# Altium integrated library TI_Logic_Little_Logic.IntLib: 1164 symbols (part 33 of 35)
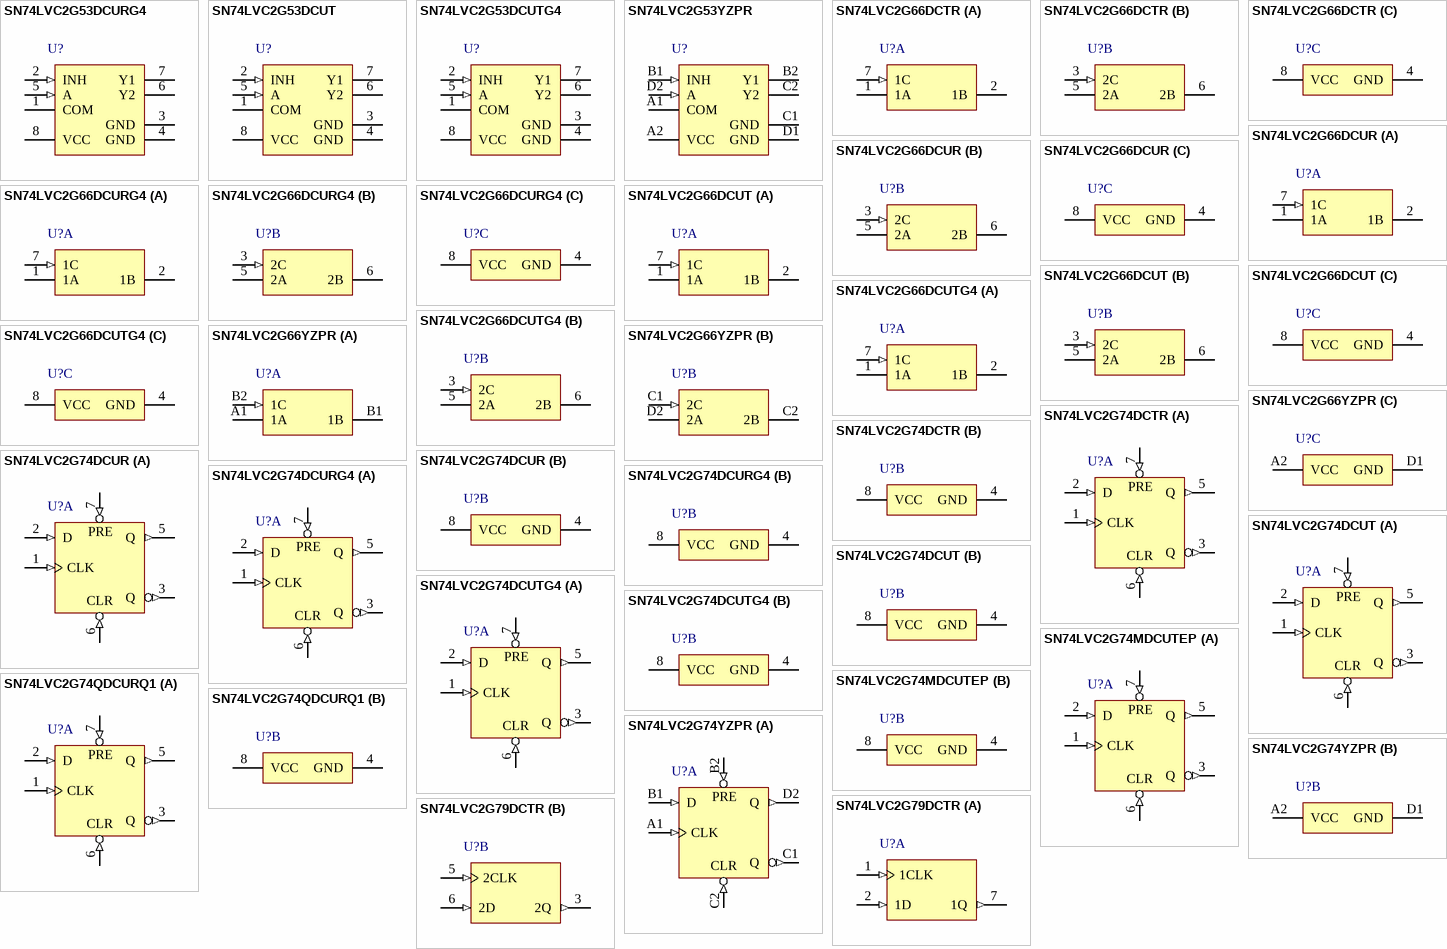
[diagram p92: symbols SN74LVC2G53DCURG4 to SN74LVC2G79DCTR]

## SN74LVC2G74QDCURQ1
designator U?
Automotive Catalog Single Positive-Edge-Triggered D-Type Flip-Flop with Clear and Preset, DCU0008A, LARGE T&R; Generic Part Number: SN74LVC2G74-Q1; Manufacturer: Texas Instruments; PartNumber: SN74LVC2G74QDCURQ1; VCC(Min)(V): 1.65; VCC(Max)(V): 5.5; Output Type: CMOS; ICC @ Nom Voltage(Max)(mA): 0.01; Input Type: CMOS/TTL; Bits(#): 1; F @ Nom Voltage(Max)(Mhz): 150; Technology Family: LVC; Voltage(Nom)(V): 1.8,2.5,3.3,5; Schmitt Trigger: No; Output Drive (IOL/IOH)(Max)(mA): 32/-32; tpd @ Nom Voltage(Max)(ns): 14.4,8.1,6.9,5.1; Logic: True; DatasheetVersion: SCES563C; PackageReference: DCU0008A; Supplier 1: Mouser; Supplier Part Number 1: 595-SN74LVC2G74QDCQ1; Supplier 2: Digi-Key; Supplier Part Number 2: 296-21820-2-ND; Supplier 3: Digi-Key; Supplier Part Number 3: 296-21820-1-ND; Supplier 4: Digi-Key; Supplier Part Number 4: 296-21820-6-ND; Operating Temperature Range(C): -40 to 125; Rating: Automotive; 3-State Output: No; Sub-Family: D-Type Flip-Flop; ComponentLink1Description: Manufacturer URL; ComponentLink1URL: http://www.ti.com/; ComponentLink2Description: Datasheet; ComponentLink2URL: http://www.ti.com/lit/ds/symlink/sn74lvc2g74-q1.pdf
footprint DCU0008A_N (SOP, 8-Leads, Body 2.4x2.1mm, Pitch 0.5mm, IPC Medium Density)
footprint DCU0008A_M (SOP, 8-Leads, Body 2.4x2.1mm, Pitch 0.5mm, IPC Low Density)
footprint DCU0008A_L (SOP, 8-Leads, Body 2.4x2.1mm, Pitch 0.5mm, IPC High Density)
part A pins: 1 CLK (in) "Clock input", 2 D (in) "Input", 3 Q (out) "Inverted output", 5 Q (out) "Output", 6 ~{CLR} (in) "Clear input - Pull low to set Q output low", 7 ~{PRE} (in) "Preset input - Pull low to set Q output high"
part B pins: 4 GND (power) "Ground", 8 VCC (power) "Supply"
part A text: PRE; CLR

## SN74LVC2G74YZPR
designator U?
Single Positive-Edge-Triggered D-Type Flip-Flop with Clear and Preset, YZP0008ADAD, LARGE T&R; Generic Part Number: SN74LVC2G74; Manufacturer: Texas Instruments; PartNumber: SN74LVC2G74YZPR; VCC(Min)(V): 1.65; VCC(Max)(V): 5.5; Output Type: CMOS; ICC @ Nom Voltage(Max)(mA): 0.01; Input Type: CMOS/TTL; Bits(#): 1; F @ Nom Voltage(Max)(Mhz): 150; Rating: Catalog; Technology Family: LVC; Voltage(Nom)(V): 1.8,2.5,3.3,5; Schmitt Trigger: No; Output Drive (IOL/IOH)(Max)(mA): 32/-32; tpd @ Nom Voltage(Max)(ns): 13.4,7.1,5.9,4.1; Logic: True; DatasheetVersion: SCES203O; PackageReference: YZP0008ADAD; Supplier 1: Mouser; Supplier Part Number 1: 595-SN74LVC2G74YZPR; Supplier 2: Digi-Key; Supplier Part Number 2: 296-14375-2-ND; Supplier 3: Digi-Key; Supplier Part Number 3: 296-14375-1-ND; Supplier 4: Digi-Key; Supplier Part Number 4: 296-14375-6-ND; Operating Temperature Range(C): -40 to 125,-40 to 85; 3-State Output: No; Sub-Family: D-Type Flip-Flop; ComponentLink1Description: Manufacturer URL; ComponentLink1URL: http://www.ti.com/; ComponentLink2Description: Datasheet; ComponentLink2URL: http://www.ti.com/lit/ds/symlink/sn74lvc2g74.pdf
footprint YZP0008ADAD (BGA, 8-Balls, Body 1.89x0.89mm, Pitch 0.5mm)
part A pins: A1 CLK (in), B1 D (in), B2 ~{PRE} (in), C1 Q (out), C2 ~{CLR} (in), D2 Q (out)
part B pins: A2 VCC (power), D1 GND (power)
part A text: PRE; CLR

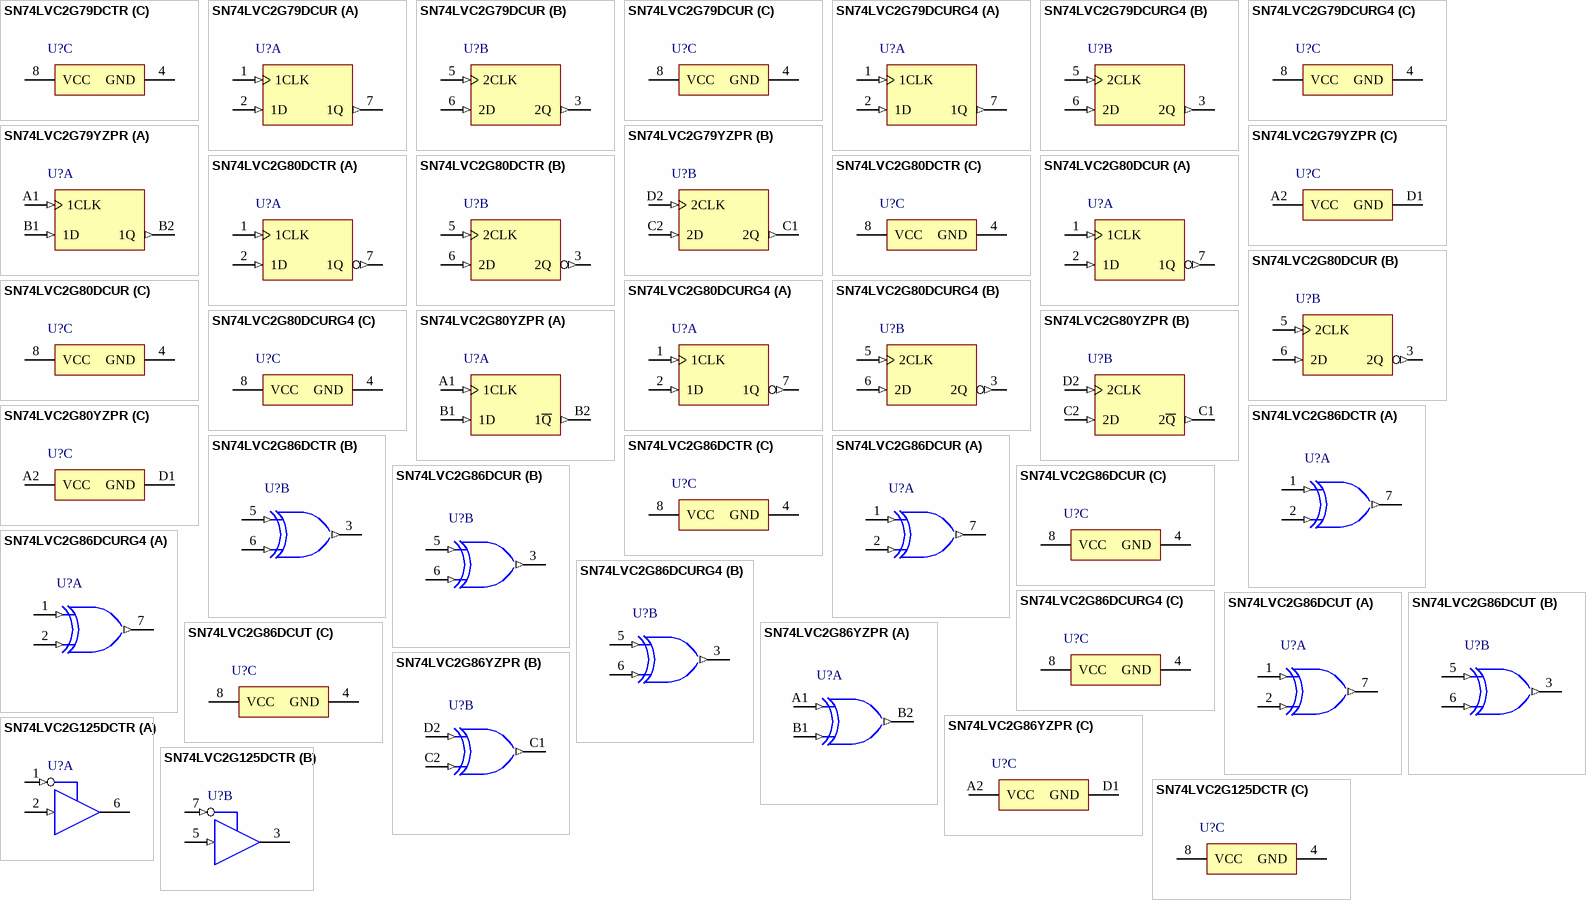
[diagram p54: symbols SN74LVC2G79DCTR to SN74LVC2G125DCTR]

## SN74LVC2G79DCTR
designator U?
Dual Positive-Edge-Triggered D-Type Flip-Flop, DCT0008A, LARGE T&R; Generic Part Number: SN74LVC2G79; Manufacturer: Texas Instruments; PartNumber: SN74LVC2G79DCTR; VCC(Min)(V): 1.65; VCC(Max)(V): 5.5; Output Type: CMOS; ICC @ Nom Voltage(Max)(mA): 0.005; Input Type: CMOS/TTL; Bits(#): 2; F @ Nom Voltage(Max)(Mhz): 150; Rating: Catalog; Technology Family: LVC; Voltage(Nom)(V): 1.8,2.5,3.3,5; Schmitt Trigger: No; Output Drive (IOL/IOH)(Max)(mA): 32/-32; tpd @ Nom Voltage(Max)(ns): 9.9,7,5.2,4.5; Logic: True; DatasheetVersion: SCES498E; PackageReference: DCT0008A; Supplier 1: Mouser; Supplier Part Number 1: 595-SN74LVC2G79DCTR; Supplier 2: Digi-Key; Supplier Part Number 2: 296-17849-2-ND; Supplier 3: Digi-Key; Supplier Part Number 3: 296-17849-1-ND; Supplier 4: Digi-Key; Supplier Part Number 4: 296-17849-6-ND; Operating Temperature Range(C): -40 to 125,-40 to 85; 3-State Output: No; Sub-Family: D-Type Flip-Flop; ComponentLink1Description: Manufacturer URL; ComponentLink1URL: http://www.ti.com/; ComponentLink2Description: Datasheet; ComponentLink2URL: http://www.ti.com/lit/ds/symlink/sn74lvc2g79.pdf
footprint DCT0008A_N (SOP, 8-Leads, Body 2.9x3.2mm, Pitch 0.65mm, IPC Medium Density)
footprint DCT0008A_M (SOP, 8-Leads, Body 2.9x3.2mm, Pitch 0.65mm, IPC Low Density)
footprint DCT0008A_L (SOP, 8-Leads, Body 2.9x3.2mm, Pitch 0.65mm, IPC High Density)
part A pins: 1 1CLK (in), 2 1D (in), 7 1Q (out)
part B pins: 3 2Q (out), 5 2CLK (in), 6 2D (in)
part C pins: 4 GND (power), 8 VCC (power)

## SN74LVC2G79DCUR
designator U?
Dual Positive-Edge-Triggered D-Type Flip-Flop, DCU0008A, LARGE T&R; Generic Part Number: SN74LVC2G79; Manufacturer: Texas Instruments; PartNumber: SN74LVC2G79DCUR; VCC(Min)(V): 1.65; VCC(Max)(V): 5.5; Output Type: CMOS; ICC @ Nom Voltage(Max)(mA): 0.005; Input Type: CMOS/TTL; Bits(#): 2; F @ Nom Voltage(Max)(Mhz): 150; Rating: Catalog; Technology Family: LVC; Voltage(Nom)(V): 1.8,2.5,3.3,5; Schmitt Trigger: No; Output Drive (IOL/IOH)(Max)(mA): 32/-32; tpd @ Nom Voltage(Max)(ns): 9.9,7,5.2,4.5; Logic: True; DatasheetVersion: SCES498E; PackageReference: DCU0008A; Supplier 1: Mouser; Supplier Part Number 1: 595-SN74LVC2G79DCUR; Supplier 2: Digi-Key; Supplier Part Number 2: 296-17254-2-ND; Supplier 3: Digi-Key; Supplier Part Number 3: 296-17254-1-ND; Supplier 4: Digi-Key; Supplier Part Number 4: 296-17254-6-ND; Operating Temperature Range(C): -40 to 125,-40 to 85; 3-State Output: No; Sub-Family: D-Type Flip-Flop; ComponentLink1Description: Manufacturer URL; ComponentLink1URL: http://www.ti.com/; ComponentLink2Description: Datasheet; ComponentLink2URL: http://www.ti.com/lit/ds/symlink/sn74lvc2g79.pdf
footprint DCU0008A_N (SOP, 8-Leads, Body 2.4x2.1mm, Pitch 0.5mm, IPC Medium Density)
footprint DCU0008A_M (SOP, 8-Leads, Body 2.4x2.1mm, Pitch 0.5mm, IPC Low Density)
footprint DCU0008A_L (SOP, 8-Leads, Body 2.4x2.1mm, Pitch 0.5mm, IPC High Density)
part A pins: 1 1CLK (in), 2 1D (in), 7 1Q (out)
part B pins: 3 2Q (out), 5 2CLK (in), 6 2D (in)
part C pins: 4 GND (power), 8 VCC (power)

## SN74LVC2G79DCURG4
designator U?
Dual Positive-Edge-Triggered D-Type Flip-Flop, DCU0008A, LARGE T&R; Generic Part Number: SN74LVC2G79; Manufacturer: Texas Instruments; PartNumber: SN74LVC2G79DCURG4; VCC(Min)(V): 1.65; VCC(Max)(V): 5.5; Output Type: CMOS; ICC @ Nom Voltage(Max)(mA): 0.005; Input Type: CMOS/TTL; Bits(#): 2; F @ Nom Voltage(Max)(Mhz): 150; Rating: Catalog; Technology Family: LVC; Voltage(Nom)(V): 1.8,2.5,3.3,5; Schmitt Trigger: No; Output Drive (IOL/IOH)(Max)(mA): 32/-32; tpd @ Nom Voltage(Max)(ns): 9.9,7,5.2,4.5; Logic: True; DatasheetVersion: SCES498E; PackageReference: DCU0008A; Supplier 1: Mouser; Supplier Part Number 1: 595-74LVC2G79DCURG4; Supplier 2: Digi-Key; Supplier Part Number 2: SN74LVC2G79DCURG4-ND; Operating Temperature Range(C): -40 to 125,-40 to 85; 3-State Output: No; Sub-Family: D-Type Flip-Flop; ComponentLink1Description: Manufacturer URL; ComponentLink1URL: http://www.ti.com/; ComponentLink2Description: Datasheet; ComponentLink2URL: http://www.ti.com/lit/ds/symlink/sn74lvc2g79.pdf
footprint DCU0008A_N (SOP, 8-Leads, Body 2.4x2.1mm, Pitch 0.5mm, IPC Medium Density)
footprint DCU0008A_M (SOP, 8-Leads, Body 2.4x2.1mm, Pitch 0.5mm, IPC Low Density)
footprint DCU0008A_L (SOP, 8-Leads, Body 2.4x2.1mm, Pitch 0.5mm, IPC High Density)
part A pins: 1 1CLK (in), 2 1D (in), 7 1Q (out)
part B pins: 3 2Q (out), 5 2CLK (in), 6 2D (in)
part C pins: 4 GND (power), 8 VCC (power)

## SN74LVC2G79YZPR
designator U?
Dual Positive-Edge-Triggered D-Type Flip-Flop, YZP0008ADAD, LARGE T&R; Generic Part Number: SN74LVC2G79; Manufacturer: Texas Instruments; PartNumber: SN74LVC2G79YZPR; VCC(Min)(V): 1.65; VCC(Max)(V): 5.5; Output Type: CMOS; ICC @ Nom Voltage(Max)(mA): 0.005; Input Type: CMOS/TTL; Bits(#): 2; F @ Nom Voltage(Max)(Mhz): 150; Rating: Catalog; Technology Family: LVC; Voltage(Nom)(V): 1.8,2.5,3.3,5; Schmitt Trigger: No; Output Drive (IOL/IOH)(Max)(mA): 32/-32; tpd @ Nom Voltage(Max)(ns): 9.9,7,5.2,4.5; Logic: True; DatasheetVersion: SCES498E; PackageReference: YZP0008ADAD; Supplier 1: Mouser; Supplier Part Number 1: 595-SN74LVC2G79YZPR; Supplier 2: Digi-Key; Supplier Part Number 2: 296-15983-2-ND; Supplier 3: Digi-Key; Supplier Part Number 3: 296-15983-1-ND; Supplier 4: Digi-Key; Supplier Part Number 4: 296-15983-6-ND; Operating Temperature Range(C): -40 to 125,-40 to 85; 3-State Output: No; Sub-Family: D-Type Flip-Flop; ComponentLink1Description: Manufacturer URL; ComponentLink1URL: http://www.ti.com/; ComponentLink2Description: Datasheet; ComponentLink2URL: http://www.ti.com/lit/ds/symlink/sn74lvc2g79.pdf
footprint YZP0008ADAD (BGA, 8-Balls, Body 1.89x0.89mm, Pitch 0.5mm)
part A pins: A1 1CLK (in), B1 1D (in), B2 1Q (out)
part B pins: C1 2Q (out), C2 2D (in), D2 2CLK (in)
part C pins: A2 VCC (power), D1 GND (power)

## SN74LVC2G80DCTR
designator U?
Dual Positive-Edge-Triggered D-Type Flip-Flop, DCT0008A, LARGE T&R; Generic Part Number: SN74LVC2G80; Manufacturer: Texas Instruments; PartNumber: SN74LVC2G80DCTR; VCC(Min)(V): 1.65; VCC(Max)(V): 5.5; Output Type: CMOS; ICC @ Nom Voltage(Max)(mA): 0.005; Input Type: CMOS/TTL; Bits(#): 2; F @ Nom Voltage(Max)(Mhz): 150; Rating: Catalog; Technology Family: LVC; Voltage(Nom)(V): 1.8,2.5,3.3,5; Schmitt Trigger: No; Output Drive (IOL/IOH)(Max)(mA): 32/-32; tpd @ Nom Voltage(Max)(ns): 13.9,7,5.2,4.5; Logic: True; DatasheetVersion: SCES309F; PackageReference: DCT0008A; Supplier 1: Mouser; Supplier Part Number 1: 595-SN74LVC2G80DCTR; Supplier 2: Digi-Key; Supplier Part Number 2: 296-18810-2-ND; Supplier 3: Digi-Key; Supplier Part Number 3: 296-18810-1-ND; Supplier 4: Digi-Key; Supplier Part Number 4: 296-18810-6-ND; Operating Temperature Range(C): -40 to 125,-40 to 85; 3-State Output: No; Sub-Family: D-Type Flip-Flop; ComponentLink1Description: Manufacturer URL; ComponentLink1URL: http://www.ti.com/; ComponentLink2Description: Datasheet; ComponentLink2URL: http://www.ti.com/lit/ds/symlink/sn74lvc2g80.pdf
footprint DCT0008A_N (SOP, 8-Leads, Body 2.9x3.2mm, Pitch 0.65mm, IPC Medium Density)
footprint DCT0008A_M (SOP, 8-Leads, Body 2.9x3.2mm, Pitch 0.65mm, IPC Low Density)
footprint DCT0008A_L (SOP, 8-Leads, Body 2.9x3.2mm, Pitch 0.65mm, IPC High Density)
part A pins: 1 1CLK (in), 2 1D (in), 7 1Q (out)
part B pins: 3 2Q (out), 5 2CLK (in), 6 2D (in)
part C pins: 4 GND (power), 8 VCC (power)

## SN74LVC2G80DCUR
designator U?
Dual Positive-Edge-Triggered D-Type Flip-Flop, DCU0008A, LARGE T&R; Generic Part Number: SN74LVC2G80; Manufacturer: Texas Instruments; PartNumber: SN74LVC2G80DCUR; VCC(Min)(V): 1.65; VCC(Max)(V): 5.5; Output Type: CMOS; ICC @ Nom Voltage(Max)(mA): 0.005; Input Type: CMOS/TTL; Bits(#): 2; F @ Nom Voltage(Max)(Mhz): 150; Rating: Catalog; Technology Family: LVC; Voltage(Nom)(V): 1.8,2.5,3.3,5; Schmitt Trigger: No; Output Drive (IOL/IOH)(Max)(mA): 32/-32; tpd @ Nom Voltage(Max)(ns): 13.9,7,5.2,4.5; Logic: True; DatasheetVersion: SCES309F; PackageReference: DCU0008A; Supplier 1: Mouser; Supplier Part Number 1: 595-SN74LVC2G80DCUR; Supplier 2: Digi-Key; Supplier Part Number 2: 296-17083-2-ND; Supplier 3: Digi-Key; Supplier Part Number 3: 296-17083-1-ND; Supplier 4: Digi-Key; Supplier Part Number 4: 296-17083-6-ND; Operating Temperature Range(C): -40 to 125,-40 to 85; 3-State Output: No; Sub-Family: D-Type Flip-Flop; ComponentLink1Description: Manufacturer URL; ComponentLink1URL: http://www.ti.com/; ComponentLink2Description: Datasheet; ComponentLink2URL: http://www.ti.com/lit/ds/symlink/sn74lvc2g80.pdf
footprint DCU0008A_N (SOP, 8-Leads, Body 2.4x2.1mm, Pitch 0.5mm, IPC Medium Density)
footprint DCU0008A_M (SOP, 8-Leads, Body 2.4x2.1mm, Pitch 0.5mm, IPC Low Density)
footprint DCU0008A_L (SOP, 8-Leads, Body 2.4x2.1mm, Pitch 0.5mm, IPC High Density)
part A pins: 1 1CLK (in), 2 1D (in), 7 1Q (out)
part B pins: 3 2Q (out), 5 2CLK (in), 6 2D (in)
part C pins: 4 GND (power), 8 VCC (power)

## SN74LVC2G80DCURG4
designator U?
Dual Positive-Edge-Triggered D-Type Flip-Flop, DCU0008A, LARGE T&R; Generic Part Number: SN74LVC2G80; Manufacturer: Texas Instruments; PartNumber: SN74LVC2G80DCURG4; VCC(Min)(V): 1.65; VCC(Max)(V): 5.5; Output Type: CMOS; ICC @ Nom Voltage(Max)(mA): 0.005; Input Type: CMOS/TTL; Bits(#): 2; F @ Nom Voltage(Max)(Mhz): 150; Rating: Catalog; Technology Family: LVC; Voltage(Nom)(V): 1.8,2.5,3.3,5; Schmitt Trigger: No; Output Drive (IOL/IOH)(Max)(mA): 32/-32; tpd @ Nom Voltage(Max)(ns): 13.9,7,5.2,4.5; Logic: True; DatasheetVersion: SCES309F; PackageReference: DCU0008A; Supplier 1: Mouser; Supplier Part Number 1: 595-74LVC2G80DCURG4; Supplier 2: Digi-Key; Supplier Part Number 2: SN74LVC2G80DCURG4-ND; Operating Temperature Range(C): -40 to 125,-40 to 85; 3-State Output: No; Sub-Family: D-Type Flip-Flop; ComponentLink1Description: Manufacturer URL; ComponentLink1URL: http://www.ti.com/; ComponentLink2Description: Datasheet; ComponentLink2URL: http://www.ti.com/lit/ds/symlink/sn74lvc2g80.pdf
footprint DCU0008A_N (SOP, 8-Leads, Body 2.4x2.1mm, Pitch 0.5mm, IPC Medium Density)
footprint DCU0008A_M (SOP, 8-Leads, Body 2.4x2.1mm, Pitch 0.5mm, IPC Low Density)
footprint DCU0008A_L (SOP, 8-Leads, Body 2.4x2.1mm, Pitch 0.5mm, IPC High Density)
part A pins: 1 1CLK (in), 2 1D (in), 7 1Q (out)
part B pins: 3 2Q (out), 5 2CLK (in), 6 2D (in)
part C pins: 4 GND (power), 8 VCC (power)

## SN74LVC2G80YZPR
designator U?
Dual Positive-Edge-Triggered D-Type Flip-Flop, YZP0008ADAD, LARGE T&R; Generic Part Number: SN74LVC2G80; Manufacturer: Texas Instruments; PartNumber: SN74LVC2G80YZPR; VCC(Min)(V): 1.65; VCC(Max)(V): 5.5; Output Type: CMOS; ICC @ Nom Voltage(Max)(mA): 0.005; Input Type: CMOS/TTL; Bits(#): 2; F @ Nom Voltage(Max)(Mhz): 150; Rating: Catalog; Technology Family: LVC; Voltage(Nom)(V): 1.8,2.5,3.3,5; Schmitt Trigger: No; Output Drive (IOL/IOH)(Max)(mA): 32/-32; tpd @ Nom Voltage(Max)(ns): 13.9,7,5.2,4.5; Logic: True; DatasheetVersion: SCES309F; PackageReference: YZP0008ADAD; Supplier 1: Mouser; Supplier Part Number 1: 595-SN74LVC2G80YZPR; Supplier 2: Digi-Key; Supplier Part Number 2: 296-15985-2-ND; Supplier 3: Digi-Key; Supplier Part Number 3: 296-15985-1-ND; Operating Temperature Range(C): -40 to 125,-40 to 85; 3-State Output: No; Sub-Family: D-Type Flip-Flop; ComponentLink1Description: Manufacturer URL; ComponentLink1URL: http://www.ti.com/; ComponentLink2Description: Datasheet; ComponentLink2URL: http://www.ti.com/lit/ds/symlink/sn74lvc2g80.pdf
footprint YZP0008ADAD (BGA, 8-Balls, Body 1.89x0.89mm, Pitch 0.5mm)
part A pins: A1 1CLK (in), B1 1D (in), B2 1~{Q} (out)
part B pins: C1 2~{Q} (out), C2 2D (in), D2 2CLK (in)
part C pins: A2 VCC (power), D1 GND (power)

## SN74LVC2G86DCTR
designator U?
Dual 2-Input Exclusive-Or Gate, DCT0008A, LARGE T&R; Generic Part Number: SN74LVC2G86; Manufacturer: Texas Instruments; PartNumber: SN74LVC2G86DCTR; VCC(Min)(V): 1.65; VCC(Max)(V): 5.5; Output Type: CMOS; ICC @ Nom Voltage(Max)(mA): 0.01; Input Type: CMOS/TTL; Bits(#): 2; F @ Nom Voltage(Max)(Mhz): 150; Rating: Catalog; Technology Family: LVC; Voltage(Nom)(V): 1.8,2.5,3.3,5; Schmitt Trigger: No; Output Drive (IOL/IOH)(Max)(mA): 32/-32; tpd @ Nom Voltage(Max)(ns): 11,6.7,5.6,4.2; Logic: True; Sub-Family: XOR Gate; DatasheetVersion: SCES360I; PackageReference: DCT0008A; Supplier 1: Mouser; Supplier Part Number 1: 595-SN74LVC2G86DCTR; Supplier 2: Digi-Key; Supplier Part Number 2: 296-13274-2-ND; Supplier 3: Digi-Key; Supplier Part Number 3: 296-13274-1-ND; Supplier 4: Digi-Key; Supplier Part Number 4: 296-13274-6-ND; Operating Temperature Range(C): -40 to 125,-40 to 85; 3-State Output: No; ComponentLink1Description: Manufacturer URL; ComponentLink1URL: http://www.ti.com/; ComponentLink2Description: Datasheet; ComponentLink2URL: http://www.ti.com/lit/ds/symlink/sn74lvc2g86.pdf
footprint DCT0008A_N (SOP, 8-Leads, Body 2.9x3.2mm, Pitch 0.65mm, IPC Medium Density)
footprint DCT0008A_M (SOP, 8-Leads, Body 2.9x3.2mm, Pitch 0.65mm, IPC Low Density)
footprint DCT0008A_L (SOP, 8-Leads, Body 2.9x3.2mm, Pitch 0.65mm, IPC High Density)
part A pins: 1 1A (in), 2 1B (in), 7 1Y (out)
part B pins: 3 2Y (out), 5 2A (in), 6 2B (in)
part C pins: 4 GND (power), 8 VCC (power)

## SN74LVC2G86DCUR
designator U?
Dual 2-Input Exclusive-Or Gate, DCU0008A, LARGE T&R; Generic Part Number: SN74LVC2G86; Manufacturer: Texas Instruments; PartNumber: SN74LVC2G86DCUR; VCC(Min)(V): 1.65; VCC(Max)(V): 5.5; Output Type: CMOS; ICC @ Nom Voltage(Max)(mA): 0.01; Input Type: CMOS/TTL; Bits(#): 2; F @ Nom Voltage(Max)(Mhz): 150; Rating: Catalog; Technology Family: LVC; Voltage(Nom)(V): 1.8,2.5,3.3,5; Schmitt Trigger: No; Output Drive (IOL/IOH)(Max)(mA): 32/-32; tpd @ Nom Voltage(Max)(ns): 11,6.7,5.6,4.2; Logic: True; Sub-Family: XOR Gate; DatasheetVersion: SCES360I; PackageReference: DCU0008A; Supplier 1: Mouser; Supplier Part Number 1: 595-SN74LVC2G86DCUR; Supplier 2: Digi-Key; Supplier Part Number 2: 296-13275-2-ND; Supplier 3: Digi-Key; Supplier Part Number 3: 296-13275-1-ND; Supplier 4: Digi-Key; Supplier Part Number 4: 296-13275-6-ND; Operating Temperature Range(C): -40 to 125,-40 to 85; 3-State Output: No; ComponentLink1Description: Manufacturer URL; ComponentLink1URL: http://www.ti.com/; ComponentLink2Description: Datasheet; ComponentLink2URL: http://www.ti.com/lit/ds/symlink/sn74lvc2g86.pdf
footprint DCU0008A_N (SOP, 8-Leads, Body 2.4x2.1mm, Pitch 0.5mm, IPC Medium Density)
footprint DCU0008A_M (SOP, 8-Leads, Body 2.4x2.1mm, Pitch 0.5mm, IPC Low Density)
footprint DCU0008A_L (SOP, 8-Leads, Body 2.4x2.1mm, Pitch 0.5mm, IPC High Density)
part A pins: 1 1A (in), 2 1B (in), 7 1Y (out)
part B pins: 3 2Y (out), 5 2A (in), 6 2B (in)
part C pins: 4 GND (power), 8 VCC (power)

## SN74LVC2G86DCURG4
designator U?
Dual 2-Input Exclusive-Or Gate, DCU0008A, LARGE T&R; Generic Part Number: SN74LVC2G86; Manufacturer: Texas Instruments; PartNumber: SN74LVC2G86DCURG4; VCC(Min)(V): 1.65; VCC(Max)(V): 5.5; Output Type: CMOS; ICC @ Nom Voltage(Max)(mA): 0.01; Input Type: CMOS/TTL; Bits(#): 2; F @ Nom Voltage(Max)(Mhz): 150; Rating: Catalog; Technology Family: LVC; Voltage(Nom)(V): 1.8,2.5,3.3,5; Schmitt Trigger: No; Output Drive (IOL/IOH)(Max)(mA): 32/-32; tpd @ Nom Voltage(Max)(ns): 11,6.7,5.6,4.2; Logic: True; Sub-Family: XOR Gate; DatasheetVersion: SCES360I; PackageReference: DCU0008A; Supplier 1: Mouser; Supplier Part Number 1: 595-74LVC2G86DCURG4; Supplier 2: Digi-Key; Supplier Part Number 2: SN74LVC2G86DCURG4-ND; Operating Temperature Range(C): -40 to 125,-40 to 85; 3-State Output: No; ComponentLink1Description: Manufacturer URL; ComponentLink1URL: http://www.ti.com/; ComponentLink2Description: Datasheet; ComponentLink2URL: http://www.ti.com/lit/ds/symlink/sn74lvc2g86.pdf
footprint DCU0008A_N (SOP, 8-Leads, Body 2.4x2.1mm, Pitch 0.5mm, IPC Medium Density)
footprint DCU0008A_M (SOP, 8-Leads, Body 2.4x2.1mm, Pitch 0.5mm, IPC Low Density)
footprint DCU0008A_L (SOP, 8-Leads, Body 2.4x2.1mm, Pitch 0.5mm, IPC High Density)
part A pins: 1 1A (in), 2 1B (in), 7 1Y (out)
part B pins: 3 2Y (out), 5 2A (in), 6 2B (in)
part C pins: 4 GND (power), 8 VCC (power)

## SN74LVC2G86DCUT
designator U?
Dual 2-Input Exclusive-Or Gate, DCU0008A, SMALL T&R; Generic Part Number: SN74LVC2G86; Manufacturer: Texas Instruments; PartNumber: SN74LVC2G86DCUT; VCC(Min)(V): 1.65; VCC(Max)(V): 5.5; Output Type: CMOS; ICC @ Nom Voltage(Max)(mA): 0.01; Input Type: CMOS/TTL; Bits(#): 2; F @ Nom Voltage(Max)(Mhz): 150; Rating: Catalog; Technology Family: LVC; Voltage(Nom)(V): 1.8,2.5,3.3,5; Schmitt Trigger: No; Output Drive (IOL/IOH)(Max)(mA): 32/-32; tpd @ Nom Voltage(Max)(ns): 11,6.7,5.6,4.2; Logic: True; Sub-Family: XOR Gate; DatasheetVersion: SCES360I; PackageReference: DCU0008A; Supplier 1: Mouser; Supplier Part Number 1: 595-SN74LVC2G86DCUT; Supplier 2: Digi-Key; Supplier Part Number 2: 296-32328-2-ND; Supplier 3: Digi-Key; Supplier Part Number 3: 296-32328-1-ND; Supplier 4: Digi-Key; Supplier Part Number 4: 296-32328-6-ND; Operating Temperature Range(C): -40 to 125,-40 to 85; 3-State Output: No; ComponentLink1Description: Manufacturer URL; ComponentLink1URL: http://www.ti.com/; ComponentLink2Description: Datasheet; ComponentLink2URL: http://www.ti.com/lit/ds/symlink/sn74lvc2g86.pdf
footprint DCU0008A_N (SOP, 8-Leads, Body 2.4x2.1mm, Pitch 0.5mm, IPC Medium Density)
footprint DCU0008A_M (SOP, 8-Leads, Body 2.4x2.1mm, Pitch 0.5mm, IPC Low Density)
footprint DCU0008A_L (SOP, 8-Leads, Body 2.4x2.1mm, Pitch 0.5mm, IPC High Density)
part A pins: 1 1A (in), 2 1B (in), 7 1Y (out)
part B pins: 3 2Y (out), 5 2A (in), 6 2B (in)
part C pins: 4 GND (power), 8 VCC (power)

## SN74LVC2G86YZPR
designator U?
Dual 2-Input Exclusive-Or Gate, YZP0008ADAD, LARGE T&R; Generic Part Number: SN74LVC2G86; Manufacturer: Texas Instruments; PartNumber: SN74LVC2G86YZPR; VCC(Min)(V): 1.65; VCC(Max)(V): 5.5; Output Type: CMOS; ICC @ Nom Voltage(Max)(mA): 0.01; Input Type: CMOS/TTL; Bits(#): 2; F @ Nom Voltage(Max)(Mhz): 150; Rating: Catalog; Technology Family: LVC; Voltage(Nom)(V): 1.8,2.5,3.3,5; Schmitt Trigger: No; Output Drive (IOL/IOH)(Max)(mA): 32/-32; tpd @ Nom Voltage(Max)(ns): 11,6.7,5.6,4.2; Logic: True; Sub-Family: XOR Gate; DatasheetVersion: SCES360I; PackageReference: YZP0008ADAD; Supplier 1: Mouser; Supplier Part Number 1: 595-SN74LVC2G86YZPR; Supplier 2: Digi-Key; Supplier Part Number 2: 296-18259-2-ND; Supplier 3: Digi-Key; Supplier Part Number 3: 296-18259-1-ND; Supplier 4: Digi-Key; Supplier Part Number 4: 296-18259-6-ND; Operating Temperature Range(C): -40 to 125,-40 to 85; 3-State Output: No; ComponentLink1Description: Manufacturer URL; ComponentLink1URL: http://www.ti.com/; ComponentLink2Description: Datasheet; ComponentLink2URL: http://www.ti.com/lit/ds/symlink/sn74lvc2g86.pdf
footprint YZP0008ADAD (BGA, 8-Balls, Body 1.89x0.89mm, Pitch 0.5mm)
part A pins: A1 1A (in), B1 1B (in), B2 1Y (out)
part B pins: C1 2Y (out), C2 2B (in), D2 2A (in)
part C pins: A2 VCC (power), D1 GND (power)

## SN74LVC2G125DCTR
designator U?
Dual Bus Buffer Gate with 3-State Outputs, DCT0008A, LARGE T&R; Generic Part Number: SN74LVC2G125; Manufacturer: Texas Instruments; PartNumber: SN74LVC2G125DCTR; VCC(Min)(V): 1.65; VCC(Max)(V): 5.5; Output Type: CMOS; ICC @ Nom Voltage(Max)(mA): 0.01; Input Type: CMOS/TTL; Bits(#): 2; F @ Nom Voltage(Max)(Mhz): 150; Rating: Catalog; Technology Family: LVC; Voltage(Nom)(V): 1.8,2.5,3.3,5; Schmitt Trigger: No; Output Drive (IOL/IOH)(Max)(mA): 32/-32; tpd @ Nom Voltage(Max)(ns): 9.1,4.8,4.3,3.7; Logic: True; Sub-Family: Non-Inverting Buffer/Driver; 3-State Output: Yes; DatasheetVersion: SCES204O; PackageReference: DCT0008A; Supplier 1: Mouser; Supplier Part Number 1: 595-SN74LVC2G125DCTR; Supplier 2: Digi-Key; Supplier Part Number 2: 296-12164-2-ND; Supplier 3: Digi-Key; Supplier Part Number 3: 296-12164-1-ND; Supplier 4: Digi-Key; Supplier Part Number 4: 296-12164-6-ND; Operating Temperature Range(C): -40 to 125; ComponentLink1Description: Manufacturer URL; ComponentLink1URL: http://www.ti.com/; ComponentLink2Description: Datasheet; ComponentLink2URL: http://www.ti.com/lit/ds/symlink/sn74lvc2g125.pdf
footprint DCT0008A_N (SOP, 8-Leads, Body 2.9x3.2mm, Pitch 0.65mm, IPC Medium Density)
footprint DCT0008A_M (SOP, 8-Leads, Body 2.9x3.2mm, Pitch 0.65mm, IPC Low Density)
footprint DCT0008A_L (SOP, 8-Leads, Body 2.9x3.2mm, Pitch 0.65mm, IPC High Density)
part A pins: 1 1~{OE} (in) "Output Enable for buffer 1", 2 1A (in) "Input", 6 1Y (hiz) "Output"
part B pins: 3 2Y (hiz) "Output", 5 2A (in) "Input", 7 2~{OE} (in) "Output Enable for buffer 2"
part C pins: 4 GND (power) "Ground Pin", 8 VCC (power) "Power Pin"

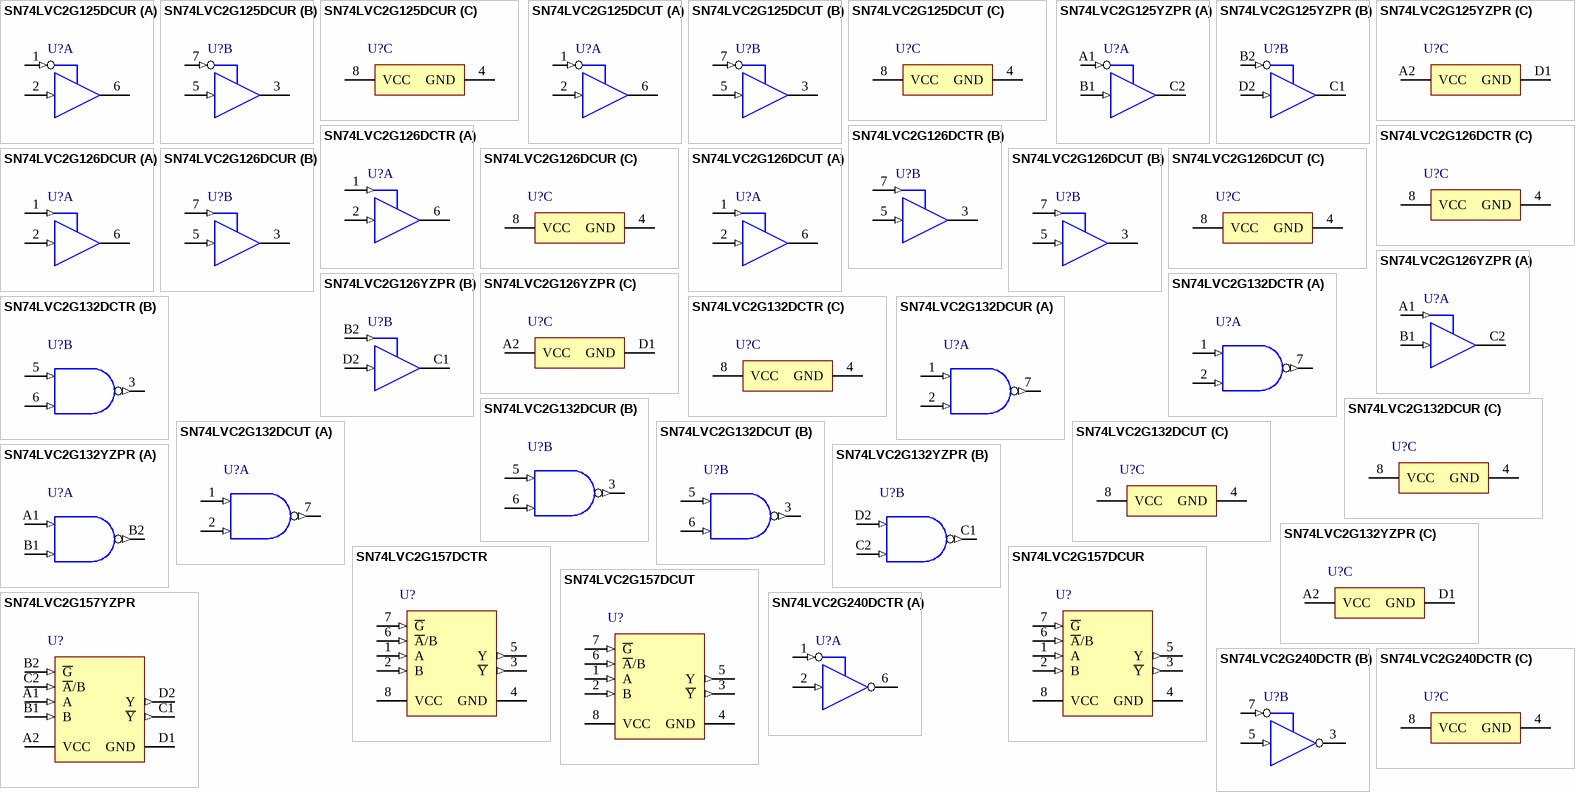
[diagram p55: symbols SN74LVC2G125DCUR to SN74LVC2G240DCTR]

## SN74LVC2G125DCUR
designator U?
Dual Bus Buffer Gate with 3-State Outputs, DCU0008A, LARGE T&R; Generic Part Number: SN74LVC2G125; Manufacturer: Texas Instruments; PartNumber: SN74LVC2G125DCUR; VCC(Min)(V): 1.65; VCC(Max)(V): 5.5; Output Type: CMOS; ICC @ Nom Voltage(Max)(mA): 0.01; Input Type: CMOS/TTL; Bits(#): 2; F @ Nom Voltage(Max)(Mhz): 150; Rating: Catalog; Technology Family: LVC; Voltage(Nom)(V): 1.8,2.5,3.3,5; Schmitt Trigger: No; Output Drive (IOL/IOH)(Max)(mA): 32/-32; tpd @ Nom Voltage(Max)(ns): 9.1,4.8,4.3,3.7; Logic: True; Sub-Family: Non-Inverting Buffer/Driver; 3-State Output: Yes; DatasheetVersion: SCES204O; PackageReference: DCU0008A; Supplier 1: Mouser; Supplier Part Number 1: 595-SN74LVC2G125DCUR; Supplier 2: Digi-Key; Supplier Part Number 2: 296-13265-2-ND; Supplier 3: Digi-Key; Supplier Part Number 3: 296-13265-1-ND; Supplier 4: Digi-Key; Supplier Part Number 4: 296-13265-6-ND; Operating Temperature Range(C): -40 to 125; ComponentLink1Description: Manufacturer URL; ComponentLink1URL: http://www.ti.com/; ComponentLink2Description: Datasheet; ComponentLink2URL: http://www.ti.com/lit/ds/symlink/sn74lvc2g125.pdf
footprint DCU0008A_N (SOP, 8-Leads, Body 2.4x2.1mm, Pitch 0.5mm, IPC Medium Density)
footprint DCU0008A_M (SOP, 8-Leads, Body 2.4x2.1mm, Pitch 0.5mm, IPC Low Density)
footprint DCU0008A_L (SOP, 8-Leads, Body 2.4x2.1mm, Pitch 0.5mm, IPC High Density)
part A pins: 1 1~{OE} (in) "Output Enable for buffer 1", 2 1A (in) "Input", 6 1Y (hiz) "Output"
part B pins: 3 2Y (hiz) "Output", 5 2A (in) "Input", 7 2~{OE} (in) "Output Enable for buffer 2"
part C pins: 4 GND (power) "Ground Pin", 8 VCC (power) "Power Pin"

## SN74LVC2G125DCUT
designator U?
Dual Bus Buffer Gate with 3-State Outputs, DCU0008A, SMALL T&R; Generic Part Number: SN74LVC2G125; Manufacturer: Texas Instruments; PartNumber: SN74LVC2G125DCUT; VCC(Min)(V): 1.65; VCC(Max)(V): 5.5; Output Type: CMOS; ICC @ Nom Voltage(Max)(mA): 0.01; Input Type: CMOS/TTL; Bits(#): 2; F @ Nom Voltage(Max)(Mhz): 150; Rating: Catalog; Technology Family: LVC; Voltage(Nom)(V): 1.8,2.5,3.3,5; Schmitt Trigger: No; Output Drive (IOL/IOH)(Max)(mA): 32/-32; tpd @ Nom Voltage(Max)(ns): 9.1,4.8,4.3,3.7; Logic: True; Sub-Family: Non-Inverting Buffer/Driver; 3-State Output: Yes; DatasheetVersion: SCES204O; PackageReference: DCU0008A; Supplier 1: Mouser; Supplier Part Number 1: 595-SN74LVC2G125DCUT; Supplier 2: Digi-Key; Supplier Part Number 2: 296-26616-2-ND; Supplier 3: Digi-Key; Supplier Part Number 3: 296-26616-1-ND; Supplier 4: Digi-Key; Supplier Part Number 4: 296-26616-6-ND; Operating Temperature Range(C): -40 to 125; ComponentLink1Description: Manufacturer URL; ComponentLink1URL: http://www.ti.com/; ComponentLink2Description: Datasheet; ComponentLink2URL: http://www.ti.com/lit/ds/symlink/sn74lvc2g125.pdf
footprint DCU0008A_N (SOP, 8-Leads, Body 2.4x2.1mm, Pitch 0.5mm, IPC Medium Density)
footprint DCU0008A_M (SOP, 8-Leads, Body 2.4x2.1mm, Pitch 0.5mm, IPC Low Density)
footprint DCU0008A_L (SOP, 8-Leads, Body 2.4x2.1mm, Pitch 0.5mm, IPC High Density)
part A pins: 1 1~{OE} (in) "Output Enable for buffer 1", 2 1A (in) "Input", 6 1Y (hiz) "Output"
part B pins: 3 2Y (hiz) "Output", 5 2A (in) "Input", 7 2~{OE} (in) "Output Enable for buffer 2"
part C pins: 4 GND (power) "Ground Pin", 8 VCC (power) "Power Pin"

## SN74LVC2G125YZPR
designator U?
Dual Bus Buffer Gate with 3-State Outputs, YZP0008ADAD, LARGE T&R; Generic Part Number: SN74LVC2G125; Manufacturer: Texas Instruments; PartNumber: SN74LVC2G125YZPR; VCC(Min)(V): 1.65; VCC(Max)(V): 5.5; Output Type: CMOS; ICC @ Nom Voltage(Max)(mA): 0.01; Input Type: CMOS/TTL; Bits(#): 2; F @ Nom Voltage(Max)(Mhz): 150; Rating: Catalog; Technology Family: LVC; Voltage(Nom)(V): 1.8,2.5,3.3,5; Schmitt Trigger: No; Output Drive (IOL/IOH)(Max)(mA): 32/-32; tpd @ Nom Voltage(Max)(ns): 9.1,4.8,4.3,3.7; Logic: True; Sub-Family: Non-Inverting Buffer/Driver; 3-State Output: Yes; DatasheetVersion: SCES204O; PackageReference: YZP0008ADAD; Supplier 1: Mouser; Supplier Part Number 1: 595-SN74LVC2G125YZPR; Supplier 2: Digi-Key; Supplier Part Number 2: 296-15109-2-ND; Supplier 3: Digi-Key; Supplier Part Number 3: 296-15109-1-ND; Supplier 4: Digi-Key; Supplier Part Number 4: 296-15109-6-ND; Operating Temperature Range(C): -40 to 125; ComponentLink1Description: Manufacturer URL; ComponentLink1URL: http://www.ti.com/; ComponentLink2Description: Datasheet; ComponentLink2URL: http://www.ti.com/lit/ds/symlink/sn74lvc2g125.pdf
footprint YZP0008ADAD (BGA, 8-Balls, Body 1.89x0.89mm, Pitch 0.5mm)
part A pins: A1 1~{OE} (in) "Output Enable for buffer 1", B1 1A (in) "Input", C2 1Y (hiz) "Output"
part B pins: B2 2~{OE} (in) "Output Enable for buffer 2", C1 2Y (hiz) "Output", D2 2A (in) "Input"
part C pins: A2 VCC (power) "Power pin", D1 GND (power) "Ground"

## SN74LVC2G126DCTR
designator U?
Dual Bus Buffer Gate With 3-State Outputs, DCT0008A, LARGE T&R; Generic Part Number: SN74LVC2G126; Manufacturer: Texas Instruments; PartNumber: SN74LVC2G126DCTR; VCC(Min)(V): 1.65; VCC(Max)(V): 5.5; Output Type: CMOS; ICC @ Nom Voltage(Max)(mA): 0.01; Input Type: CMOS/TTL; Bits(#): 2; F @ Nom Voltage(Max)(Mhz): 150; Rating: Catalog; Technology Family: LVC; Voltage(Nom)(V): 1.8,2.5,3.3,5; Schmitt Trigger: No; Output Drive (IOL/IOH)(Max)(mA): 32/-32; tpd @ Nom Voltage(Max)(ns): 9.8,4.9,4,3.2; Logic: True; Sub-Family: Non-Inverting Buffer/Driver; 3-State Output: Yes; DatasheetVersion: SCES205L; PackageReference: DCT0008A; Supplier 1: Mouser; Supplier Part Number 1: 595-SN74LVC2G126DCTR; Supplier 2: Digi-Key; Supplier Part Number 2: 296-12554-2-ND; Supplier 3: Digi-Key; Supplier Part Number 3: 296-12554-1-ND; Supplier 4: Digi-Key; Supplier Part Number 4: 296-12554-6-ND; Operating Temperature Range(C): -40 to 125; ComponentLink1Description: Manufacturer URL; ComponentLink1URL: http://www.ti.com/; ComponentLink2Description: Datasheet; ComponentLink2URL: http://www.ti.com/lit/ds/symlink/sn74lvc2g126.pdf
footprint DCT0008A_N (SOP, 8-Leads, Body 2.9x3.2mm, Pitch 0.65mm, IPC Medium Density)
footprint DCT0008A_M (SOP, 8-Leads, Body 2.9x3.2mm, Pitch 0.65mm, IPC Low Density)
footprint DCT0008A_L (SOP, 8-Leads, Body 2.9x3.2mm, Pitch 0.65mm, IPC High Density)
part A pins: 1 1OE (in), 2 1A (in), 6 1Y (hiz)
part B pins: 3 2Y (hiz), 5 2A (in), 7 2OE (in)
part C pins: 4 GND (power) "Ground Pin", 8 VCC (power) "Power Pin"

## SN74LVC2G126DCUR
designator U?
Dual Bus Buffer Gate With 3-State Outputs, DCU0008A, LARGE T&R; Generic Part Number: SN74LVC2G126; Manufacturer: Texas Instruments; PartNumber: SN74LVC2G126DCUR; VCC(Min)(V): 1.65; VCC(Max)(V): 5.5; Output Type: CMOS; ICC @ Nom Voltage(Max)(mA): 0.01; Input Type: CMOS/TTL; Bits(#): 2; F @ Nom Voltage(Max)(Mhz): 150; Rating: Catalog; Technology Family: LVC; Voltage(Nom)(V): 1.8,2.5,3.3,5; Schmitt Trigger: No; Output Drive (IOL/IOH)(Max)(mA): 32/-32; tpd @ Nom Voltage(Max)(ns): 9.8,4.9,4,3.2; Logic: True; Sub-Family: Non-Inverting Buffer/Driver; 3-State Output: Yes; DatasheetVersion: SCES205L; PackageReference: DCU0008A; Supplier 1: Mouser; Supplier Part Number 1: 595-SN74LVC2G126DCUR; Supplier 2: Digi-Key; Supplier Part Number 2: 296-12555-2-ND; Supplier 3: Digi-Key; Supplier Part Number 3: 296-12555-1-ND; Supplier 4: Digi-Key; Supplier Part Number 4: 296-12555-6-ND; Operating Temperature Range(C): -40 to 125; ComponentLink1Description: Manufacturer URL; ComponentLink1URL: http://www.ti.com/; ComponentLink2Description: Datasheet; ComponentLink2URL: http://www.ti.com/lit/ds/symlink/sn74lvc2g126.pdf
footprint DCU0008A_N (SOP, 8-Leads, Body 2.4x2.1mm, Pitch 0.5mm, IPC Medium Density)
footprint DCU0008A_M (SOP, 8-Leads, Body 2.4x2.1mm, Pitch 0.5mm, IPC Low Density)
footprint DCU0008A_L (SOP, 8-Leads, Body 2.4x2.1mm, Pitch 0.5mm, IPC High Density)
part A pins: 1 1OE (in), 2 1A (in), 6 1Y (hiz)
part B pins: 3 2Y (hiz), 5 2A (in), 7 2OE (in)
part C pins: 4 GND (power) "Ground Pin", 8 VCC (power) "Power Pin"

## SN74LVC2G126DCUT
designator U?
Dual Bus Buffer Gate With 3-State Outputs, DCU0008A, SMALL T&R; Generic Part Number: SN74LVC2G126; Manufacturer: Texas Instruments; PartNumber: SN74LVC2G126DCUT; VCC(Min)(V): 1.65; VCC(Max)(V): 5.5; Output Type: CMOS; ICC @ Nom Voltage(Max)(mA): 0.01; Input Type: CMOS/TTL; Bits(#): 2; F @ Nom Voltage(Max)(Mhz): 150; Rating: Catalog; Technology Family: LVC; Voltage(Nom)(V): 1.8,2.5,3.3,5; Schmitt Trigger: No; Output Drive (IOL/IOH)(Max)(mA): 32/-32; tpd @ Nom Voltage(Max)(ns): 9.8,4.9,4,3.2; Logic: True; Sub-Family: Non-Inverting Buffer/Driver; 3-State Output: Yes; DatasheetVersion: SCES205L; PackageReference: DCU0008A; Supplier 1: Mouser; Supplier Part Number 1: 595-SN74LVC2G126DCUT; Supplier 2: Digi-Key; Supplier Part Number 2: 296-32321-2-ND; Supplier 3: Digi-Key; Supplier Part Number 3: 296-32321-1-ND; Supplier 4: Digi-Key; Supplier Part Number 4: 296-32321-6-ND; Operating Temperature Range(C): -40 to 125; ComponentLink1Description: Manufacturer URL; ComponentLink1URL: http://www.ti.com/; ComponentLink2Description: Datasheet; ComponentLink2URL: http://www.ti.com/lit/ds/symlink/sn74lvc2g126.pdf
footprint DCU0008A_N (SOP, 8-Leads, Body 2.4x2.1mm, Pitch 0.5mm, IPC Medium Density)
footprint DCU0008A_M (SOP, 8-Leads, Body 2.4x2.1mm, Pitch 0.5mm, IPC Low Density)
footprint DCU0008A_L (SOP, 8-Leads, Body 2.4x2.1mm, Pitch 0.5mm, IPC High Density)
part A pins: 1 1OE (in), 2 1A (in), 6 1Y (hiz)
part B pins: 3 2Y (hiz), 5 2A (in), 7 2OE (in)
part C pins: 4 GND (power) "Ground Pin", 8 VCC (power) "Power Pin"

## SN74LVC2G126YZPR
designator U?
Dual Bus Buffer Gate With 3-State Outputs, YZP0008ADAD, LARGE T&R; Generic Part Number: SN74LVC2G126; Manufacturer: Texas Instruments; PartNumber: SN74LVC2G126YZPR; VCC(Min)(V): 1.65; VCC(Max)(V): 5.5; Output Type: CMOS; ICC @ Nom Voltage(Max)(mA): 0.01; Input Type: CMOS/TTL; Bits(#): 2; F @ Nom Voltage(Max)(Mhz): 150; Rating: Catalog; Technology Family: LVC; Voltage(Nom)(V): 1.8,2.5,3.3,5; Schmitt Trigger: No; Output Drive (IOL/IOH)(Max)(mA): 32/-32; tpd @ Nom Voltage(Max)(ns): 9.8,4.9,4,3.2; Logic: True; Sub-Family: Non-Inverting Buffer/Driver; 3-State Output: Yes; DatasheetVersion: SCES205L; PackageReference: YZP0008ADAD; Supplier 1: Mouser; Supplier Part Number 1: 595-SN74LVC2G126YZPR; Supplier 2: Digi-Key; Supplier Part Number 2: 296-15587-2-ND; Supplier 3: Digi-Key; Supplier Part Number 3: 296-15587-1-ND; Operating Temperature Range(C): -40 to 125; ComponentLink1Description: Manufacturer URL; ComponentLink1URL: http://www.ti.com/; ComponentLink2Description: Datasheet; ComponentLink2URL: http://www.ti.com/lit/ds/symlink/sn74lvc2g126.pdf
footprint YZP0008ADAD (BGA, 8-Balls, Body 1.89x0.89mm, Pitch 0.5mm)
part A pins: A1 1OE (in) "1OE Enable/Input", B1 1A (in) "1A Input", C2 1Y (hiz) "1Y Output"
part B pins: B2 2OE (in) "2OE Enable/Input", C1 2Y (hiz) "2Y Output", D2 2A (in) "2A Input"
part C pins: A2 VCC (power) "Power Pin", D1 GND (power) "Ground Pin"

## SN74LVC2G132DCTR
designator U?
Dual 2-Input NAND Gate with Schmitt-Trigger Inputs, DCT0008A, LARGE T&R; Generic Part Number: SN74LVC2G132; Manufacturer: Texas Instruments; PartNumber: SN74LVC2G132DCTR; VCC(Min)(V): 1.65; VCC(Max)(V): 5.5; Output Type: CMOS; ICC @ Nom Voltage(Max)(mA): 0.01; Input Type: CMOS/TTL; Bits(#): 2; F @ Nom Voltage(Max)(Mhz): 150; Rating: Catalog; Technology Family: LVC; Voltage(Nom)(V): 1.8,2.5,3.3,5; Schmitt Trigger: Yes; Output Drive (IOL/IOH)(Max)(mA): 32/-32; tpd @ Nom Voltage(Max)(ns): 16,7.5,6,5; Logic: True; 3-State Output: No; DatasheetVersion: SCES547D; PackageReference: DCT0008A; Supplier 1: Mouser; Supplier Part Number 1: 595-SN74LVC2G132DCTR; Supplier 2: Digi-Key; Supplier Part Number 2: 296-17056-2-ND; Supplier 3: Digi-Key; Supplier Part Number 3: 296-17056-1-ND; Supplier 4: Digi-Key; Supplier Part Number 4: 296-17056-6-ND; Operating Temperature Range(C): -40 to 125,-40 to 85; Gate Type: NAND; Sub-Family: AND Gate; ComponentLink1Description: Manufacturer URL; ComponentLink1URL: http://www.ti.com/; ComponentLink2Description: Datasheet; ComponentLink2URL: http://www.ti.com/lit/ds/symlink/sn74lvc2g132.pdf
footprint DCT0008A_N (SOP, 8-Leads, Body 2.9x3.2mm, Pitch 0.65mm, IPC Medium Density)
footprint DCT0008A_M (SOP, 8-Leads, Body 2.9x3.2mm, Pitch 0.65mm, IPC Low Density)
footprint DCT0008A_L (SOP, 8-Leads, Body 2.9x3.2mm, Pitch 0.65mm, IPC High Density)
part A pins: 1 1A (in) "A input for gate 1", 2 1B (in) "B input for gate 1", 7 1Y (out) "Output for gate 1"
part B pins: 3 2Y (out) "Output for gate 2", 5 2A (in) "A input for gate 2", 6 2B (in) "B input for gate 2"
part C pins: 4 GND (power) "Ground", 8 VCC (power) "Power input."

## SN74LVC2G132DCUR
designator U?
Dual 2-Input NAND Gate with Schmitt-Trigger Inputs, DCU0008A, LARGE T&R; Generic Part Number: SN74LVC2G132; Manufacturer: Texas Instruments; PartNumber: SN74LVC2G132DCUR; VCC(Min)(V): 1.65; VCC(Max)(V): 5.5; Output Type: CMOS; ICC @ Nom Voltage(Max)(mA): 0.01; Input Type: CMOS/TTL; Bits(#): 2; F @ Nom Voltage(Max)(Mhz): 150; Rating: Catalog; Technology Family: LVC; Voltage(Nom)(V): 1.8,2.5,3.3,5; Schmitt Trigger: Yes; Output Drive (IOL/IOH)(Max)(mA): 32/-32; tpd @ Nom Voltage(Max)(ns): 16,7.5,6,5; Logic: True; 3-State Output: No; DatasheetVersion: SCES547D; PackageReference: DCU0008A; Supplier 1: Mouser; Supplier Part Number 1: 595-SN74LVC2G132DCUR; Supplier 2: Digi-Key; Supplier Part Number 2: 296-18802-2-ND; Supplier 3: Digi-Key; Supplier Part Number 3: 296-18802-1-ND; Supplier 4: Digi-Key; Supplier Part Number 4: 296-18802-6-ND; Operating Temperature Range(C): -40 to 125,-40 to 85; Gate Type: NAND; Sub-Family: AND Gate; ComponentLink1Description: Manufacturer URL; ComponentLink1URL: http://www.ti.com/; ComponentLink2Description: Datasheet; ComponentLink2URL: http://www.ti.com/lit/ds/symlink/sn74lvc2g132.pdf
footprint DCU0008A_N (SOP, 8-Leads, Body 2.4x2.1mm, Pitch 0.5mm, IPC Medium Density)
footprint DCU0008A_M (SOP, 8-Leads, Body 2.4x2.1mm, Pitch 0.5mm, IPC Low Density)
footprint DCU0008A_L (SOP, 8-Leads, Body 2.4x2.1mm, Pitch 0.5mm, IPC High Density)
part A pins: 1 1A (in) "A input for gate 1", 2 1B (in) "B input for gate 1", 7 1Y (out) "Output for gate 1"
part B pins: 3 2Y (out) "Output for gate 2", 5 2A (in) "A input for gate 2", 6 2B (in) "B input for gate 2"
part C pins: 4 GND (power) "Ground", 8 VCC (power) "Power input."

## SN74LVC2G132DCUT
designator U?
Dual 2-Input NAND Gate with Schmitt-Trigger Inputs, DCU0008A, SMALL T&R; Generic Part Number: SN74LVC2G132; Manufacturer: Texas Instruments; PartNumber: SN74LVC2G132DCUT; VCC(Min)(V): 1.65; VCC(Max)(V): 5.5; Output Type: CMOS; ICC @ Nom Voltage(Max)(mA): 0.01; Input Type: CMOS/TTL; Bits(#): 2; F @ Nom Voltage(Max)(Mhz): 150; Rating: Catalog; Technology Family: LVC; Voltage(Nom)(V): 1.8,2.5,3.3,5; Schmitt Trigger: Yes; Output Drive (IOL/IOH)(Max)(mA): 32/-32; tpd @ Nom Voltage(Max)(ns): 16,7.5,6,5; Logic: True; 3-State Output: No; DatasheetVersion: SCES547D; PackageReference: DCU0008A; Supplier 1: Mouser; Supplier Part Number 1: 595-SN74LVC2G132DCUT; Supplier 2: Digi-Key; Supplier Part Number 2: 296-26617-2-ND; Supplier 3: Digi-Key; Supplier Part Number 3: 296-26617-1-ND; Supplier 4: Digi-Key; Supplier Part Number 4: 296-26617-6-ND; Operating Temperature Range(C): -40 to 125,-40 to 85; Gate Type: NAND; Sub-Family: AND Gate; ComponentLink1Description: Manufacturer URL; ComponentLink1URL: http://www.ti.com/; ComponentLink2Description: Datasheet; ComponentLink2URL: http://www.ti.com/lit/ds/symlink/sn74lvc2g132.pdf
footprint DCU0008A_N (SOP, 8-Leads, Body 2.4x2.1mm, Pitch 0.5mm, IPC Medium Density)
footprint DCU0008A_M (SOP, 8-Leads, Body 2.4x2.1mm, Pitch 0.5mm, IPC Low Density)
footprint DCU0008A_L (SOP, 8-Leads, Body 2.4x2.1mm, Pitch 0.5mm, IPC High Density)
part A pins: 1 1A (in) "A input for gate 1", 2 1B (in) "B input for gate 1", 7 1Y (out) "Output for gate 1"
part B pins: 3 2Y (out) "Output for gate 2", 5 2A (in) "A input for gate 2", 6 2B (in) "B input for gate 2"
part C pins: 4 GND (power) "Ground", 8 VCC (power) "Power input."

## SN74LVC2G132YZPR
designator U?
Dual 2-Input NAND Gate with Schmitt-Trigger Inputs, YZP0008ADAD, LARGE T&R; Generic Part Number: SN74LVC2G132; Manufacturer: Texas Instruments; PartNumber: SN74LVC2G132YZPR; VCC(Min)(V): 1.65; VCC(Max)(V): 5.5; Output Type: CMOS; ICC @ Nom Voltage(Max)(mA): 0.01; Input Type: CMOS/TTL; Bits(#): 2; F @ Nom Voltage(Max)(Mhz): 150; Rating: Catalog; Technology Family: LVC; Voltage(Nom)(V): 1.8,2.5,3.3,5; Schmitt Trigger: Yes; Output Drive (IOL/IOH)(Max)(mA): 32/-32; tpd @ Nom Voltage(Max)(ns): 16,7.5,6,5; Logic: True; 3-State Output: No; DatasheetVersion: SCES547D; PackageReference: YZP0008ADAD; Supplier 1: Mouser; Supplier Part Number 1: 595-SN74LVC2G132YZPR; Supplier 2: Digi-Key; Supplier Part Number 2: 296-17504-2-ND; Supplier 3: Digi-Key; Supplier Part Number 3: 296-17504-1-ND; Supplier 4: Digi-Key; Supplier Part Number 4: 296-17504-6-ND; Operating Temperature Range(C): -40 to 125,-40 to 85; Gate Type: NAND; Sub-Family: AND Gate; ComponentLink1Description: Manufacturer URL; ComponentLink1URL: http://www.ti.com/; ComponentLink2Description: Datasheet; ComponentLink2URL: http://www.ti.com/lit/ds/symlink/sn74lvc2g132.pdf
footprint YZP0008ADAD (BGA, 8-Balls, Body 1.89x0.89mm, Pitch 0.5mm)
part A pins: A1 1A (in) "A input for gate 1", B1 1B (in) "B input for gate 1", B2 1Y (out) "Output for gate 1"
part B pins: C1 2Y (out) "Output for gate 2", C2 2B (in) "B input for gate 2", D2 2A (in) "A input for gate 2"
part C pins: A2 VCC (power) "Power input.", D1 GND (power) "Ground"

## SN74LVC2G157DCTR
designator U?
Single 2-Line to 1-Line Data Selector/Multiplexer, DCT0008A, LARGE T&R; Generic Part Number: SN74LVC2G157; Manufacturer: Texas Instruments; PartNumber: SN74LVC2G157DCTR; VCC(Min)(V): 1.65; VCC(Max)(V): 5.5; Output Type: CMOS; ICC @ Nom Voltage(Max)(mA): 0.01; Input Type: CMOS/TTL; Bits(#): 2; F @ Nom Voltage(Max)(Mhz): 150; Rating: Catalog; Technology Family: LVC; Voltage(Nom)(V): 1.8,2.5,3.3,5; Schmitt Trigger: No; Output Drive (IOL/IOH)(Max)(mA): 32/-32; tpd @ Nom Voltage(Max)(ns): 14,8,6,4; Logic: True; Sub-Family: Decoder/Encoder/Multiplexer; DatasheetVersion: SCES207L; PackageReference: DCT0008A; Supplier 1: Mouser; Supplier Part Number 1: 595-SN74LVC2G157DCTR; Supplier 2: Digi-Key; Supplier Part Number 2: 296-13266-2-ND; Supplier 3: Digi-Key; Supplier Part Number 3: 296-13266-1-ND; Supplier 4: Digi-Key; Supplier Part Number 4: 296-13266-6-ND; Operating Temperature Range(C): -40 to 85; Specialty Logic Family: Decoder/Encoder/Multiplexer; 3-State Output: No; ComponentLink1Description: Manufacturer URL; ComponentLink1URL: http://www.ti.com/; ComponentLink2Description: Datasheet; ComponentLink2URL: http://www.ti.com/lit/ds/symlink/sn74lvc2g157.pdf
footprint DCT0008A_N (SOP, 8-Leads, Body 2.9x3.2mm, Pitch 0.65mm, IPC Medium Density)
footprint DCT0008A_M (SOP, 8-Leads, Body 2.9x3.2mm, Pitch 0.65mm, IPC Low Density)
footprint DCT0008A_L (SOP, 8-Leads, Body 2.9x3.2mm, Pitch 0.65mm, IPC High Density)
pins: 1 A (in), 2 B (in), 3 ~{Y} (out), 4 GND (power), 5 Y (out), 6 ~{A}/B (in), 7 ~{G} (in), 8 VCC (power)

## SN74LVC2G157DCUR
designator U?
Single 2-Line to 1-Line Data Selector/Multiplexer, DCU0008A, LARGE T&R; Generic Part Number: SN74LVC2G157; Manufacturer: Texas Instruments; PartNumber: SN74LVC2G157DCUR; VCC(Min)(V): 1.65; VCC(Max)(V): 5.5; Output Type: CMOS; ICC @ Nom Voltage(Max)(mA): 0.01; Input Type: CMOS/TTL; Bits(#): 2; F @ Nom Voltage(Max)(Mhz): 150; Rating: Catalog; Technology Family: LVC; Voltage(Nom)(V): 1.8,2.5,3.3,5; Schmitt Trigger: No; Output Drive (IOL/IOH)(Max)(mA): 32/-32; tpd @ Nom Voltage(Max)(ns): 14,8,6,4; Logic: True; Sub-Family: Decoder/Encoder/Multiplexer; DatasheetVersion: SCES207L; PackageReference: DCU0008A; Supplier 1: Mouser; Supplier Part Number 1: 595-SN74LVC2G157DCUR; Supplier 2: Digi-Key; Supplier Part Number 2: 296-12605-2-ND; Supplier 3: Digi-Key; Supplier Part Number 3: 296-12605-1-ND; Supplier 4: Digi-Key; Supplier Part Number 4: 296-12605-6-ND; Operating Temperature Range(C): -40 to 85; Specialty Logic Family: Decoder/Encoder/Multiplexer; 3-State Output: No; ComponentLink1Description: Manufacturer URL; ComponentLink1URL: http://www.ti.com/; ComponentLink2Description: Datasheet; ComponentLink2URL: http://www.ti.com/lit/ds/symlink/sn74lvc2g157.pdf
footprint DCU0008A_N (SOP, 8-Leads, Body 2.4x2.1mm, Pitch 0.5mm, IPC Medium Density)
footprint DCU0008A_M (SOP, 8-Leads, Body 2.4x2.1mm, Pitch 0.5mm, IPC Low Density)
footprint DCU0008A_L (SOP, 8-Leads, Body 2.4x2.1mm, Pitch 0.5mm, IPC High Density)
pins: 1 A (in), 2 B (in), 3 ~{Y} (out), 4 GND (power), 5 Y (out), 6 ~{A}/B (in), 7 ~{G} (in), 8 VCC (power)

## SN74LVC2G157DCUT
designator U?
Single 2-Line to 1-Line Data Selector/Multiplexer, DCU0008A, SMALL T&R; Generic Part Number: SN74LVC2G157; Manufacturer: Texas Instruments; PartNumber: SN74LVC2G157DCUT; VCC(Min)(V): 1.65; VCC(Max)(V): 5.5; Output Type: CMOS; ICC @ Nom Voltage(Max)(mA): 0.01; Input Type: CMOS/TTL; Bits(#): 2; F @ Nom Voltage(Max)(Mhz): 150; Rating: Catalog; Technology Family: LVC; Voltage(Nom)(V): 1.8,2.5,3.3,5; Schmitt Trigger: No; Output Drive (IOL/IOH)(Max)(mA): 32/-32; tpd @ Nom Voltage(Max)(ns): 14,8,6,4; Logic: True; Sub-Family: Decoder/Encoder/Multiplexer; DatasheetVersion: SCES207L; PackageReference: DCU0008A; Supplier 1: Mouser; Supplier Part Number 1: 595-SN74LVC2G157DCUT; Supplier 2: Digi-Key; Supplier Part Number 2: 296-32322-2-ND; Supplier 3: Digi-Key; Supplier Part Number 3: 296-32322-1-ND; Supplier 4: Digi-Key; Supplier Part Number 4: 296-32322-6-ND; Operating Temperature Range(C): -40 to 85; Specialty Logic Family: Decoder/Encoder/Multiplexer; 3-State Output: No; ComponentLink1Description: Manufacturer URL; ComponentLink1URL: http://www.ti.com/; ComponentLink2Description: Datasheet; ComponentLink2URL: http://www.ti.com/lit/ds/symlink/sn74lvc2g157.pdf
footprint DCU0008A_N (SOP, 8-Leads, Body 2.4x2.1mm, Pitch 0.5mm, IPC Medium Density)
footprint DCU0008A_M (SOP, 8-Leads, Body 2.4x2.1mm, Pitch 0.5mm, IPC Low Density)
footprint DCU0008A_L (SOP, 8-Leads, Body 2.4x2.1mm, Pitch 0.5mm, IPC High Density)
pins: 1 A (in), 2 B (in), 3 ~{Y} (out), 4 GND (power), 5 Y (out), 6 ~{A}/B (in), 7 ~{G} (in), 8 VCC (power)

## SN74LVC2G157YZPR
designator U?
Single 2-Line to 1-Line Data Selector/Multiplexer, YZP0008ADAD, LARGE T&R; Generic Part Number: SN74LVC2G157; Manufacturer: Texas Instruments; PartNumber: SN74LVC2G157YZPR; VCC(Min)(V): 1.65; VCC(Max)(V): 5.5; Output Type: CMOS; ICC @ Nom Voltage(Max)(mA): 0.01; Input Type: CMOS/TTL; Bits(#): 2; F @ Nom Voltage(Max)(Mhz): 150; Rating: Catalog; Technology Family: LVC; Voltage(Nom)(V): 1.8,2.5,3.3,5; Schmitt Trigger: No; Output Drive (IOL/IOH)(Max)(mA): 32/-32; tpd @ Nom Voltage(Max)(ns): 14,8,6,4; Logic: True; Sub-Family: Decoder/Encoder/Multiplexer; DatasheetVersion: SCES207L; PackageReference: YZP0008ADAD; Supplier 1: Mouser; Supplier Part Number 1: 595-SN74LVC2G157YZPR; Supplier 2: Digi-Key; Supplier Part Number 2: 296-18804-2-ND; Supplier 3: Digi-Key; Supplier Part Number 3: 296-18804-1-ND; Operating Temperature Range(C): -40 to 85; Specialty Logic Family: Decoder/Encoder/Multiplexer; 3-State Output: No; ComponentLink1Description: Manufacturer URL; ComponentLink1URL: http://www.ti.com/; ComponentLink2Description: Datasheet; ComponentLink2URL: http://www.ti.com/lit/ds/symlink/sn74lvc2g157.pdf
footprint YZP0008ADAD (BGA, 8-Balls, Body 1.89x0.89mm, Pitch 0.5mm)
pins: A1 A (in), A2 VCC (power), B1 B (in), B2 ~{G} (in), C1 ~{Y} (out), C2 ~{A}/B (in), D1 GND (power), D2 Y (out)

## SN74LVC2G240DCTR
designator U?
Dual Buffer/Driver With 3-State Outputs, DCT0008A, LARGE T&R; Generic Part Number: SN74LVC2G240; Manufacturer: Texas Instruments; PartNumber: SN74LVC2G240DCTR; VCC(Min)(V): 1.65; VCC(Max)(V): 5.5; Output Type: CMOS; ICC @ Nom Voltage(Max)(mA): 0.01; Input Type: CMOS/TTL; Bits(#): 2; F @ Nom Voltage(Max)(Mhz): 150; Rating: Catalog; Technology Family: LVC; Voltage(Nom)(V): 1.8,2.5,3.3,5; Schmitt Trigger: No; Output Drive (IOL/IOH)(Max)(mA): 32/-32; tpd @ Nom Voltage(Max)(ns): 13.7,6.8,5.8,5; Logic: Inverting; Sub-Family: Non-Inverting Buffer/Driver; 3-State Output: Yes; DatasheetVersion: SCES208I; PackageReference: DCT0008A; Supplier 1: Mouser; Supplier Part Number 1: 595-SN74LVC2G240DCTR; Supplier 2: Digi-Key; Supplier Part Number 2: 296-15588-2-ND; Supplier 3: Digi-Key; Supplier Part Number 3: 296-15588-1-ND; Supplier 4: Digi-Key; Supplier Part Number 4: 296-15588-6-ND; Operating Temperature Range(C): -40 to 125; ComponentLink1Description: Manufacturer URL; ComponentLink1URL: http://www.ti.com/; ComponentLink2Description: Datasheet; ComponentLink2URL: http://www.ti.com/lit/ds/symlink/sn74lvc2g240.pdf
footprint DCT0008A_N (SOP, 8-Leads, Body 2.9x3.2mm, Pitch 0.65mm, IPC Medium Density)
footprint DCT0008A_M (SOP, 8-Leads, Body 2.9x3.2mm, Pitch 0.65mm, IPC Low Density)
footprint DCT0008A_L (SOP, 8-Leads, Body 2.9x3.2mm, Pitch 0.65mm, IPC High Density)
part A pins: 1 1~{OE} (in), 2 1A (in), 6 1Y (hiz)
part B pins: 3 2Y (hiz), 5 2A (in), 7 2~{OE} (in)
part C pins: 4 GND (power), 8 VCC (power)

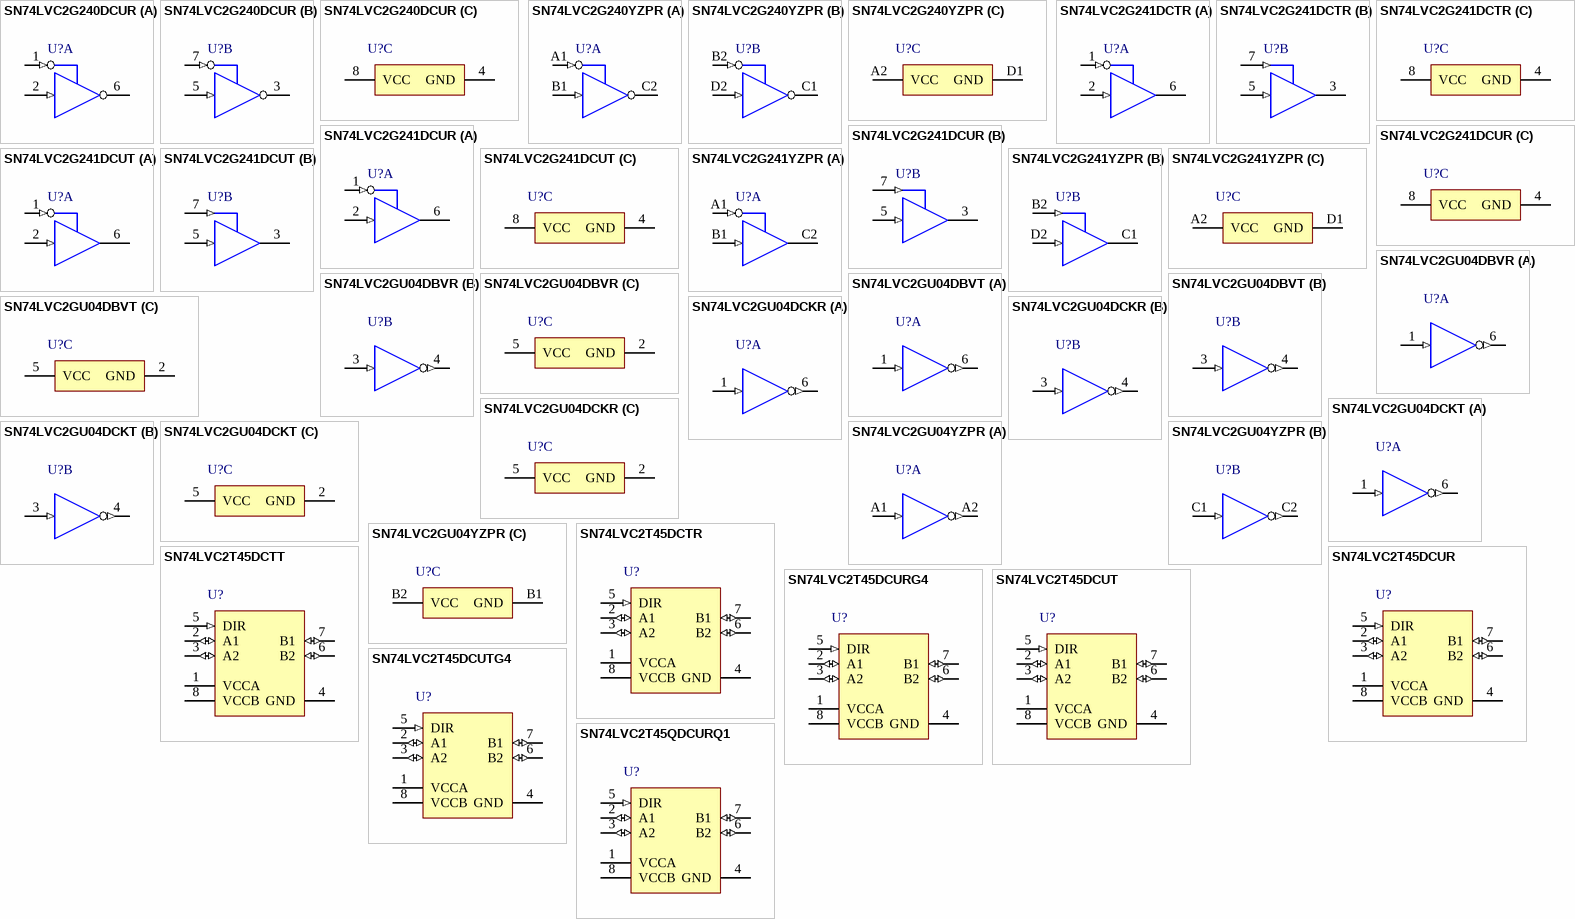
[diagram p56: symbols SN74LVC2G240DCUR to SN74LVC2T45QDCURQ1]